# Altium footprint library PcbLib1.PcbLib: 18 footprints (part 2 of 2)
Each footprint in its own frame and in the unit in brackets; x right, y up, seen from the top. Pads: shape width x height; smd on the part's side, far side on the other; paste and mask are expansions set on the pad; w line width, h text height; cw(c..) or ccw(c..) is an arc to the next point about the centre after c.
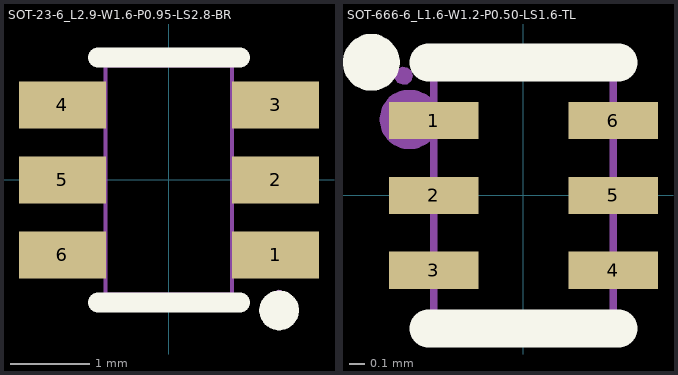
[diagram p1: the footprints below, top view; thin cyan lines are the x and y axes]

## SOT-23-6_L2.9-W1.6-P0.95-LS2.8-BR [mil]
pads (6):
  rect 43.3x23.6 smd paste+0 mask+2: 1(53.2,-37.4) 2(53.2,0) 3(53.2,37.4) 4(-53.1,37.4) 5(-53.1,0) 6(-53.1,-37.4)
Top Overlay:
  lines w10: -35.4,-61 35.4,-61 ; -35.4,61 35.4,61 ; 50,-65 50.4,-63.1 51.5,-61.5 53.1,-60.4 55,-60 56.9,-60.4 58.5,-61.5 59.6,-63.1 60,-65 59.6,-66.9 58.5,-68.5 56.9,-69.6 55,-70 53.1,-69.6 51.5,-68.5 50.4,-66.9 50,-65
Mechanical 4:
  lines w7.9: 51.2,-37.4 51.6,-35.7 52.7,-34.3 54.2,-33.6 56,-33.6 57.6,-34.3 58.7,-35.7 59.1,-37.4 58.7,-39.1 57.6,-40.5 56,-41.2 54.2,-41.2 52.7,-40.5 51.6,-39.1 51.2,-37.4
Mechanical 7:
  lines w2: -31.5,-57.1 31.5,-57.1 31.5,57.1 -31.5,57.1 -31.5,-57.1
Mechanical 8:
  region: 36.8,45.9 36.8,28.9 31.1,28.9 31.1,45.9
  region: 36.8,8.5 36.8,-8.5 31.1,-8.5 31.1,8.5
  region: 36.8,-28.9 36.8,-45.9 31.1,-45.9 31.1,-28.9
  region: -36.8,-45.9 -36.8,-28.9 -31.1,-28.9 -31.1,-45.9
  region: -36.8,-8.5 -36.8,8.5 -31.1,8.5 -31.1,-8.5
  region: -36.8,28.9 -36.8,45.9 -31.1,45.9 -31.1,28.9
Mechanical 9:
  region: 57.5,-57.1 57.1,-58.4 56.1,-59.2 54.8,-59.4 53.6,-58.9 52.9,-57.8 52.9,-56.4 53.6,-55.3 54.8,-54.7 56.1,-54.9 57.1,-55.8
Mechanical 10:
  region: 36.4,-45.9 36.4,-28.9 55.1,-28.9 55.1,-45.9
  region: 36.4,-8.5 36.4,8.5 55.1,8.5 55.1,-8.5
  region: 36.4,28.9 36.4,45.9 55.1,45.9 55.1,28.9
  region: -36.4,28.9 -36.4,45.9 -55.1,45.9 -55.1,28.9
  region: -36.4,-8.5 -36.4,8.5 -55.1,8.5 -55.1,-8.5
  region: -36.4,-45.9 -36.4,-28.9 -55.1,-28.9 -55.1,-45.9
3D body "3D_PCB1_2026-06-08 (1).step": height 64.96, standoff -5.51, extent -56.8,-57.09 53.94,57.09

## SOT-666-6_L1.6-W1.2-P0.50-LS1.6-TL [mil]
pads (6):
  rect 23.6x9.8 smd: 1(-23.6,19.7) 2(-23.6,0) 3(-23.6,-19.7) 4(23.6,-19.7) 5(23.6,0) 6(23.6,19.7)
Top Overlay:
  lines w8: -43.5,35 -43.2,36.5 -42.2,37.7 -40.8,38.4 -39.2,38.4 -37.8,37.7 -36.8,36.5 -36.5,35 -36.8,33.5 -37.8,32.3 -39.2,31.6 -40.8,31.6 -42.2,32.3 -43.2,33.5 -43.5,35
  lines w10: -25,-35 25,-35 ; -25,35 25,35
Mechanical 4:
  lines w7.9: -33.9,20 -33.5,21.7 -32.5,23.1 -30.9,23.8 -29.1,23.8 -27.5,23.1 -26.5,21.7 -26.1,20 -26.5,18.3 -27.5,16.9 -29.1,16.2 -30.9,16.2 -32.5,16.9 -33.5,18.3 -33.9,20
Mechanical 7:
  lines w2: -23.6,-31.5 23.6,-31.5 23.6,31.5 -23.6,31.5 -23.6,-31.5
Mechanical 9:
  region: -29.1,31.5 -29.5,30.2 -30.5,29.3 -31.8,29.2 -33,29.7 -33.8,30.8 -33.8,32.2 -33,33.3 -31.8,33.8 -30.5,33.6 -29.5,32.8
Mechanical 10:
  region: 19.7,15.7 19.7,23.6 31.5,23.6 31.5,15.7
  region: 19.7,-3.9 19.7,3.9 31.5,3.9 31.5,-3.9
  region: 19.7,-23.6 19.7,-15.7 31.5,-15.7 31.5,-23.6
  region: -31.5,-23.6 -31.5,-15.7 -19.7,-15.7 -19.7,-23.6
  region: -31.5,-3.9 -31.5,3.9 -19.7,3.9 -19.7,-3.9
  region: -31.5,15.7 -31.5,23.6 -19.7,23.6 -19.7,15.7
3D body "3D_PCB1_2026-06-08 (2).step": height 24.06, standoff -5.51, extent -31.89,-30.32 31.1,32.68